# Altium footprint library 保险丝.PcbLib: 13 footprints
Each footprint in its own frame and in the unit in brackets; x right, y up, seen from the top. Pads: shape width x height; smd on the part's side, far side on the other; paste and mask are expansions set on the pad; w line width, h text height; cw(c..) or ccw(c..) is an arc to the next point about the centre after c.
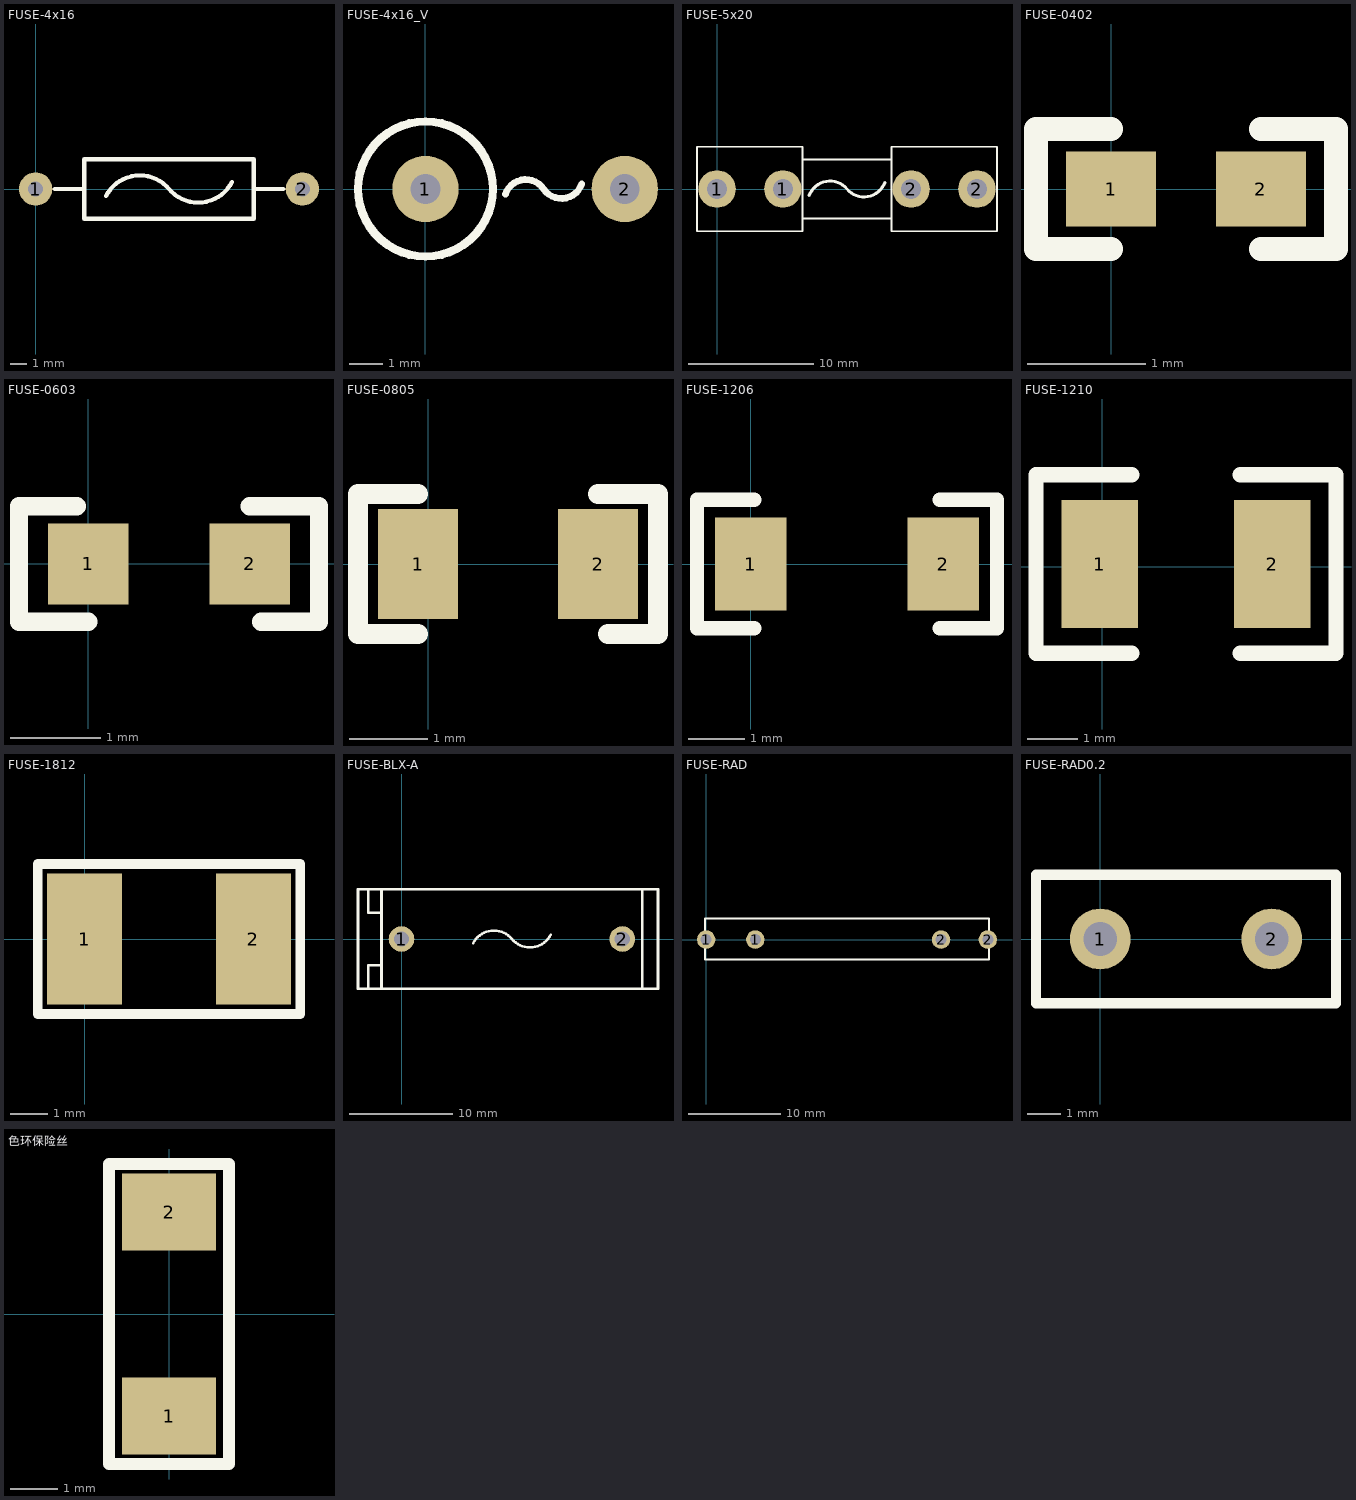
[diagram p0: the footprints below, top view; thin cyan lines are the x and y axes]

## FUSE-4x16 [mm]
pads (2):
  round 2 hole 0.9: 1(0,0) 2(16,0)
Top Overlay:
  lines w0.254: 1.142,0 2.92,0 ; 4.218,-0.419 cw(c6.249,-1.469) 8,0 ccw(c9.751,1.469) 11.782,0.419 ; 13.08,0 14.858,0 ; 2.92,-1.778 2.92,1.778 13.08,1.778 13.08,-1.778 2.92,-1.778
3D body "6.STEP": height 3.95, standoff -3.55, extent -0.426,-1.868 16.174,2.032

## FUSE-4x16_V [mm]
pads (2):
  round 2 hole 0.9: 1(0,0) 2(6,0)
Top Overlay:
  circle w0.254: c0,0 r2.032
  lines w0.203: 2.406,-0.156 cw(c3.019,-0.362) 3.556,0 ccw(c4.093,0.362) 4.706,0.156
3D body "m.STEP": height 13.1, standoff -3.5, extent -2.118,-2.032 6.182,1.968

## FUSE-5x20 [mm]
pads (4):
  round 3 hole 1.6: 1(0,0) 1(5.27,0) 2(15.53,0) 2(20.8,0)
Top Overlay:
  lines w0.15: 6.844,-2.35 13.956,-2.35 ; 6.844,2.35 13.956,2.35 ; -1.6,-3.38 -1.6,3.38 6.844,3.38 6.844,-3.38 -1.6,-3.38 ; 13.956,-3.38 13.956,3.38 22.4,3.38 22.4,-3.38 13.956,-3.38
  lines w0.254: 7.373,-0.52 cw(c9.038,-1.143) 10.4,0 ccw(c11.762,1.143) 13.427,0.52
3D body "n.STEP": height 9.77, standoff -3.6, extent -0.513,-3.175 21.087,3.125

## FUSE-0402 [mil]
pads (2):
  rect 30x25 smd: 1(0,0) 2(50,0)
Top Overlay:
  lines w8: 0,-20 -25,-20 -25,20 -15,20 0,20 ; 50,-20 75,-20 75,20 50,20
3D body "12.STEP": height 14.57, standoff 0, extent 5.32,-10 44.68,10.47

## FUSE-0603 [mil]
pads (2):
  rect 35x35 smd: 1(0,0) 2(70,0)
Top Overlay:
  lines w8: -5,25 -30,25 -30,-25 0,-25 ; 70,25 100,25 100,-25 75,-25
3D body "11.STEP": height 20.47, standoff 0, extent 7.01,-16.14 70,16.14

## FUSE-0805 [mil]
pads (2):
  rect 40x55 smd: 1(-5,0) 2(85,0)
Top Overlay:
  lines w10: -5,-35 -35,-35 -35,35 -5,35 ; 85,35 115,35 115,-35 90,-35
3D body "10.STEP": height 20.47, standoff 0, extent 0,-24.02 78.74,24.02

## FUSE-1206 [mil]
pads (2):
  rect 50x65 smd: 1(0,0) 2(135,0)
Top Overlay:
  lines w10: 2.5,-45 -37.5,-45 -37.5,45 2.5,45 ; 132.5,-45 172.5,-45 172.5,45 132.5,45
3D body "9.STEP": height 34.25, standoff 0, extent 2.01,-33.78 127.99,30

## FUSE-1210 [mil]
pads (2):
  rect 60x100 smd: 1(-2,2) 2(133,2)
Top Overlay:
  lines w12: 23,-68 -52,-68 -52,72 23,72 ; 108,-68 183,-68 183,72 108,72
3D body "Fuse1210.STEP": height 26.57, standoff 0, extent 7.72,-48.69 134.29,52.69

## FUSE-1812 [mm]
pads (2):
  rect 2x3.5 smd: 1(0,0) 2(4.5,0)
Top Overlay:
  lines w0.254: -1.25,-2 -1.25,2 5.75,2 5.75,-2 -1.25,-2
3D body "User Library-fuse1812.STEP": height 1.32, standoff 0, extent -0.16,-1.61 4.66,1.61

## FUSE-BLX-A [mm]
pads (2):
  round 2.5 hole 1.5: 1(0,0) 2(21.5,0)
Top Overlay:
  lines w0.254: -1.95,-4.826 -1.95,-2.54 ; -1.95,4.826 -1.95,2.54 ; 6.968,-0.419 cw(c8.999,-1.469) 10.75,0 ccw(c12.501,1.469) 14.532,0.419 ; 23.196,-4.826 24.974,-4.826 24.974,4.826 23.45,4.826 ; -3.22,-4.826 -3.22,-2.54 -1.95,-2.54 ; -3.22,-4.826 23.45,-4.826 23.45,4.826 ; -3.22,-4.826 -4.236,-4.826 -4.236,4.826 -3.22,4.826 ; -3.22,4.826 -3.22,2.54 -1.95,2.54 ; -3.22,4.826 23.45,4.826 ; -1.95,-2.54 -1.95,2.54
3D body "3.STEP": height 13.9, standoff -3.6, extent -4.261,-4.801 25.089,4.699

## FUSE-RAD [mm]
pads (4):
  round 2 hole 1.2: 1(0,0) 1(5.334,0) 2(25.527,0) 2(30.607,0)
Top Overlay:
  lines w0.254: -0.127,-2.159 30.734,-2.159 30.734,2.286 -0.127,2.286 -0.127,-2.159
3D body "SW3DPS-FUSE-DEFAULT.STEP": height 8.84, standoff -4.01, extent -0.127,-2.825 30.753,3.079

## FUSE-RAD0.2 [mm]
pads (2):
  round 1.8 hole 1: 1(0,0) 2(5.08,0)
Top Overlay:
  lines w0.305: -1.905,-1.905 -1.905,1.905 6.985,1.905 6.985,-1.905 -1.905,-1.905
3D body "FUSE-FRU110-30F.STEP": height 11, standoff -7.22, extent -1.16,-0.85 6.24,0.85

## 色环保险丝 [mm]
pads (2):
  rect 2x1.63 smd: 1(0,-2.159) 2(0,2.159)
Top Overlay:
  lines w0.254: -1.27,-3.175 -1.27,3.175 1.27,3.175 1.27,-3.175 -1.27,-3.175